# EAGLE library part FT231XS-R (library FT231XS-R)
USB Full Speed to Full Handshake UART with USB Charger Detection
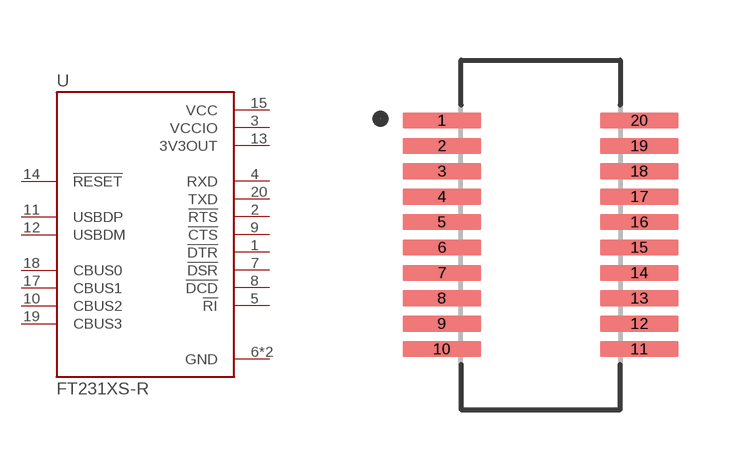
[diagram p0: symbol with the pads of SOP63P599X175-20N; footprint SOP63P599X175-20N]

Designator prefix U

## FT231XS-R (Description: USB Bridge, USB to UART USB 2.0 UART Interface 20-SSOP; Digi-Key_Part_Number: 768-1129-1-ND; MF: FTDI,; MP: FT231XS-R; Package: SSOP-20 FTDI; Purchase-URL: https://pricing.snapeda.com/search/part/FT231XS-R/?ref=eda)  [SOP63P599X175-20N]
1  !DTR  out
2  !RTS  out
3  VCCIO  pwr
4  RXD  in
5  !RI  in
6  GND  pwr
7  !DSR  in
8  !DCD  in
9  !CTS  in
10  CBUS2
11  USBDP  in
12  USBDM  in
13  3V3OUT  pwr
14  !RESET  in
15  VCC  pwr
16  GND  pwr
17  CBUS1
18  CBUS0
19  CBUS3
20  TXD  out

## Footprint SOP63P599X175-20N (pad centres in mm)
smd 1.97 x 0.41: 1 -2.47,2.857; 2 -2.47,2.223; 3 -2.47,1.587; 4 -2.47,0.953; 5 -2.47,0.318; 6 -2.47,-0.318; 7 -2.47,-0.953; 8 -2.47,-1.587; 9 -2.47,-2.223; 10 -2.47,-2.857; 11 2.47,-2.857; 12 2.47,-2.223; 13 2.47,-1.587; 14 2.47,-0.953; 15 2.47,-0.318; 16 2.47,0.318; 17 2.47,0.953; 18 2.47,1.587; 19 2.47,2.223; 20 2.47,2.857